# EAGLE library part IL300 (library digital_dash)
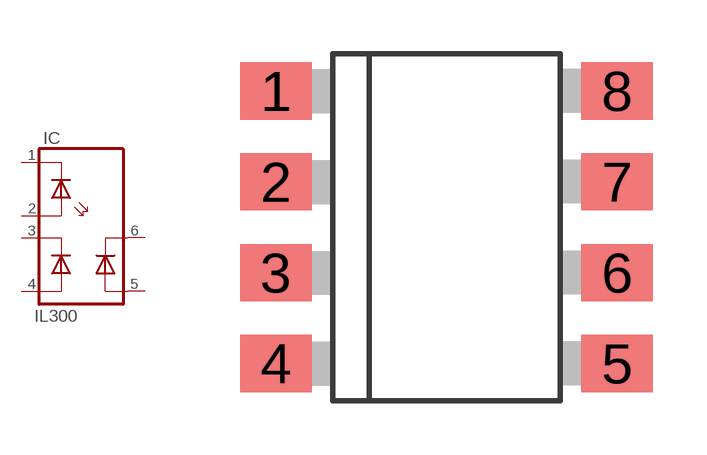
[diagram p3: symbol with the pads of DIL8-SMD; footprint DIL8-SMD]

Designator prefix IC

## IL300, IL300-DEFG-X007T  [DIL8-SMD]
1  C1  pas
2  A2  pas
3  C3  pas
4  A4  pas
5  A5  pas
6  C6  pas

## Footprint DIL8-SMD (pad centres in mm)
Dual In Line SMD 8 pol. Source: LITE-ON ELECTRONICS, LTV816.pdf
smd 2 x 1.6: 1 -4.77,3.81; 2 -4.77,1.27; 3 -4.77,-1.27; 4 -4.77,-3.81; 5 4.77,-3.81; 6 4.77,-1.27; 7 4.77,1.27; 8 4.77,3.81